# Altium footprint library PCBLIB-PCSB_5.1.3.PcbLib: 181 footprints (part 12 of 12)
Each footprint in its own frame and in the unit in brackets; x right, y up, seen from the top. Pads: shape width x height; smd on the part's side, far side on the other; paste and mask are expansions set on the pad; w line width, h text height; cw(c..) or ccw(c..) is an arc to the next point about the centre after c.
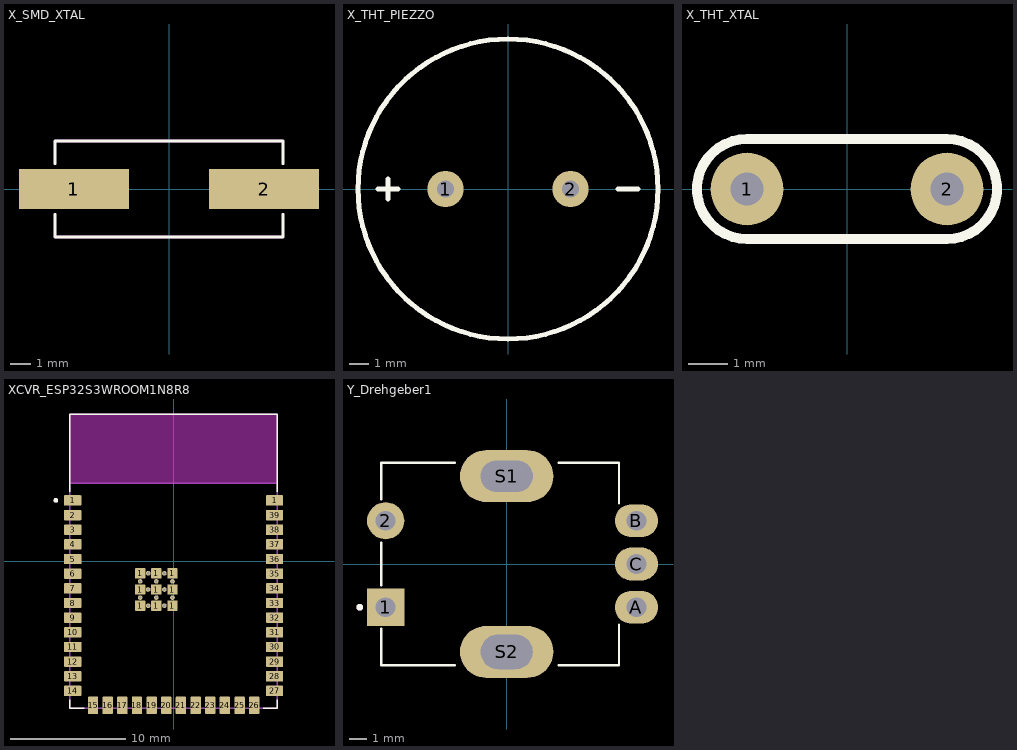
[diagram p11: the footprints below, top view; thin cyan lines are the x and y axes]

## X_SMD_XTAL [mm] "LB-2024-04-17"
pads (2):
  rect 5.5x2 smd: 1(-4.75,0) 2(4.75,0)
Top Overlay:
  lines w0.127: -5.7,-1.254 -5.7,-2.4 5.7,-2.4 5.7,-1.254 ; -5.7,1.254 -5.7,2.4 5.7,2.4 5.7,1.254
Mechanical 13:
  lines w0.127: -5.7,-2.4 5.7,-2.4 ; -5.7,2.4 5.7,2.4

## X_THT_PIEZZO [mm] "LB-2024-04-18"
pads (2):
  round 1.85 hole 0.85: 1(-3.175,0) 2(3.175,0)
Top Overlay:
  circle w0.254: c0,0 r7.62
  lines w0.254: -6.604,0 -5.588,0 ; -6.096,-0.508 -6.096,0.508 ; 5.588,0 6.604,0

## X_THT_XTAL [mm] "LB-2024-04-17"
pads (2):
  round 1.85 hole 0.85: 1(-2.54,0) 2(2.54,0)
Top Overlay:
  lines w0.254: -2.54,-1.27 cw(c-2.54,0) -2.54,1.27 2.54,1.27 cw(c2.54,0) 2.54,-1.27 -2.54,-1.27

## XCVR_ESP32S3WROOM1N8R8 [mm]
pads (61):
  rrect15% 1.5x0.9 smd paste-0.02 mask+0.05: 1(-8.75,5.26) 1(8.75,5.26) 2(-8.75,3.99) 3(-8.75,2.72) 4(-8.75,1.45) 5(-8.75,0.18) 6(-8.75,-1.09) 7(-8.75,-2.36) 8(-8.75,-3.63) 9(-8.75,-4.9) 10(-8.75,-6.17) 11(-8.75,-7.44) 12(-8.75,-8.71) 13(-8.75,-9.98) 14(-8.75,-11.25) 27(8.75,-11.25) 28(8.75,-9.98) 29(8.75,-8.71) 30(8.75,-7.44) 31(8.75,-6.17) 32(8.75,-4.9) 33(8.75,-3.63) 34(8.75,-2.36) 35(8.75,-1.09) 36(8.75,0.18) 37(8.75,1.45) 38(8.75,2.72) 39(8.75,3.99)
  rrect15% 0.9x0.9 smd paste-0.02 mask+0.05: 1(-2.9,-3.86) 1(-2.9,-2.46) 1(-2.9,-1.06) 1(-1.5,-3.86) 1(-1.5,-2.46) 1(-1.5,-1.06) 1(-0.1,-3.86) 1(-0.1,-2.46) 1(-0.1,-1.06)
  round 0.4 hole 0.2 mask+0: 1(-2.9,-3.16) 1(-2.9,-1.76) 1(-2.2,-3.86) 1(-2.2,-2.46) 1(-2.2,-1.06) 1(-1.5,-3.16) 1(-1.5,-1.76) 1(-0.8,-3.86) 1(-0.8,-2.46) 1(-0.8,-1.06) 1(-0.1,-3.16) 1(-0.1,-1.76)
  rrect15% 0.9x1.5 smd paste-0.02 mask+0.05: 15(-6.985,-12.5) 16(-5.715,-12.5) 17(-4.445,-12.5) 18(-3.175,-12.5) 19(-1.905,-12.5) 20(-0.635,-12.5) 21(0.635,-12.5) 22(1.905,-12.5) 23(3.175,-12.5) 24(4.445,-12.5) 25(5.715,-12.5) 26(6.985,-12.5)
Top Overlay:
  circle w0.2: c-10.2,5.26 r0.1
  lines w0.127: -9,-12.02 -9,-12.75 -7.755,-12.75 ; -9,6.03 -9,12.75 9,12.75 9,6.03 ; 7.755,-12.75 9,-12.75 9,-12.02
Keep-Out Layer:
  region: 9,6.75 -9,6.75 -9,12.75 9,12.75
  region: 9,6.75 -9,6.75 -9,12.75 9,12.75
Mechanical 13:
  circle w0.2: c-10.2,5.26 r0.1
  lines w0.127: -9,6.75 9,6.75 ; -9,6.75 -9,12.75 9,12.75 9,6.75 ; -9,6.75 -9,-12.75 9,-12.75 9,6.75

## Y_Drehgeber1 [mm] "LB-2024-04-19"
pads (7):
  rect 2.15x2.15 hole 1.15: 1(-7,-2.5)
  round 2.15 hole 1.15: 2(-7,2.5)
  oval 2.5x1.9 hole 1.15: A(7.5,-2.5) B(7.5,2.5) C(7.5,0)
  oval 5.4x3 hole 1.8 slot 3 at 0 deg: S1(0,5.08)
  oval 5.4x3 hole 2 slot 3 at 0 deg: S2(0,-5.08)
Top Overlay:
  circle w0.2: c-8.5,-2.5 r0.1
  lines w0.127: -7.25,-3.75 -7.25,-5.85 -3,-5.85 ; -7.25,-1.25 -7.25,1.25 ; -7.25,3.75 -7.25,5.85 -3,5.85 ; 3,-5.85 6.5,-5.85 6.5,-3.5 ; 3,5.85 6.5,5.85 6.5,3.5
Mechanical 13:
  circle w0.2: c-8.5,-2.5 r0.1